# EAGLE library part CONN_10 (library ManyDev)
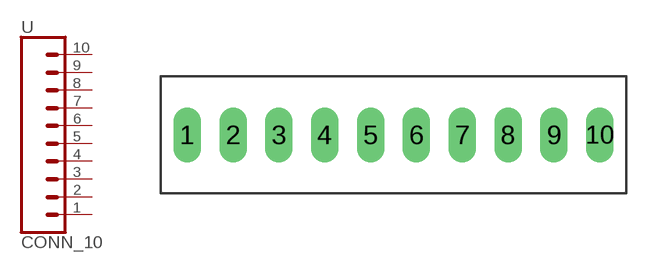
[diagram p2: symbol with the pads of SCREW_TERMINAL_10P_2.54MM_LONGPAD; footprint SCREW_TERMINAL_10P_2.54MM_LONGPAD]

Designator prefix -

## CONN_10  [SCREW_TERMINAL_10P_2.54MM_LONGPAD]
1  1  pas
2  2  pas
3  3  pas
4  4  pas
5  5  pas
6  6  pas
7  7  pas
8  8  pas
9  9  pas
10  10  pas

## Footprint SCREW_TERMINAL_10P_2.54MM_LONGPAD (pad centres in mm)
Plated Through Hole - 10 Pin Long Pad Specifications: Pin count:10 Pin pitch:0.1" Example device(s): CONN_10
drill 1.016 long: 1 0,0; 2 2.54,0; 3 5.08,0; 4 7.62,0; 5 10.16,0; 6 12.7,0; 7 15.24,0; 8 17.78,0; 9 20.32,0; 10 22.86,0